# EAGLE library part 16_R56 - 1821384 (library Pheonix_connectors)
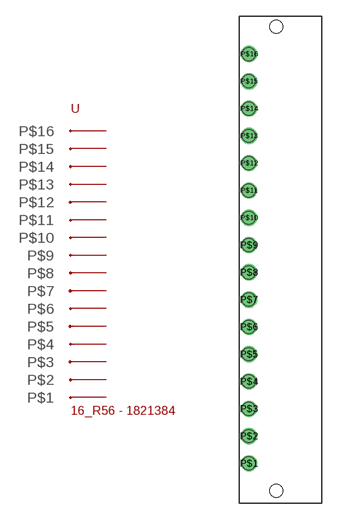
[diagram p1: symbol with the pads of 16_R56 - 1821384; footprint 16_R56 - 1821384]

Designator prefix -

## 16_R56 - 1821384 (PAIR_CON: PN_1821232)  [16_R56 - 1821384]
P$1  P$1
P$2  P$2
P$3  P$3
P$4  P$4
P$5  P$5
P$6  P$6
P$7  P$7
P$8  P$8
P$9  P$9
P$10  P$10
P$11  P$11
P$12  P$12
P$13  P$13
P$14  P$14
P$15  P$15
P$16  P$16

## Footprint 16_R56 - 1821384 (pad centres in mm)
drill 1: P$1 -2.539,2.542; P$2 -2.539,5.082; P$3 -2.539,7.622; P$4 -2.539,10.162; P$5 -2.539,12.702; P$6 -2.539,15.242; P$7 -2.539,17.782; P$8 -2.539,20.322; P$9 -2.539,22.862; P$10 -2.539,25.402; P$11 -2.539,27.942; P$12 -2.539,30.482; P$13 -2.539,33.022; P$14 -2.539,35.562; P$15 -2.539,38.102; P$16 -2.539,40.642
hole 1.2 at 0.001,0.002
hole 1.2 at -2.539,2.542
hole 1.2 at -2.539,5.082
hole 1.2 at -2.539,7.622
hole 1.2 at -2.539,10.162
hole 1.2 at -2.539,12.702
hole 1.2 at -2.539,15.242
hole 1.2 at -2.539,17.782
hole 1.2 at -2.539,20.322
hole 1.2 at -2.539,22.862
hole 1.2 at -2.539,25.402
hole 1.2 at -2.539,27.942
hole 1.2 at -2.539,30.482
hole 1.2 at -2.539,33.022
hole 1.2 at -2.539,35.562
hole 1.2 at -2.539,38.102
hole 1.2 at -2.539,40.642
hole 1.2 at 0.001,43.182